# Altium footprint library SnapEDApcb.PcbLib: 1 footprints
Each footprint in its own frame and in the unit in brackets; x right, y up, seen from the top. Pads: shape width x height; smd on the part's side, far side on the other; paste and mask are expansions set on the pad; w line width, h text height; cw(c..) or ccw(c..) is an arc to the next point about the centre after c.
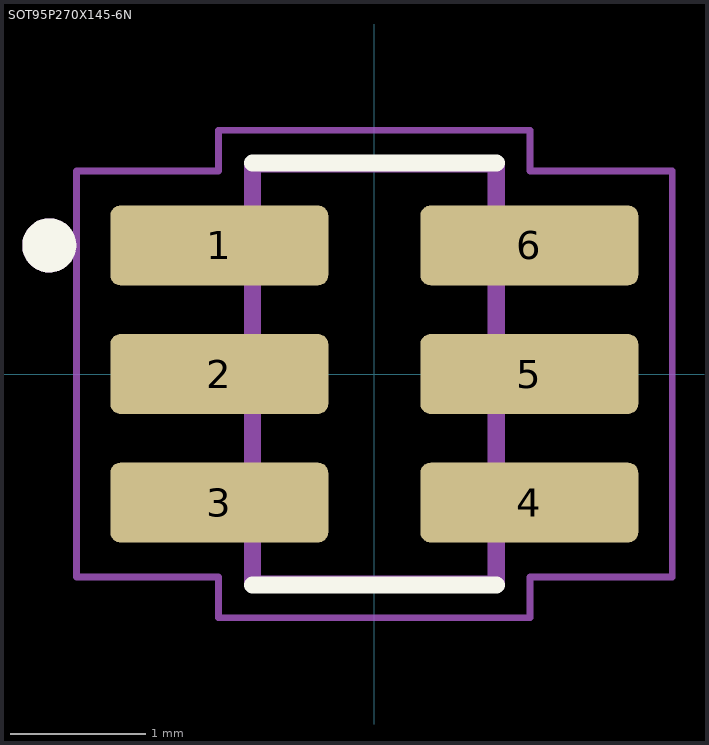
[diagram p0: the footprint, top view; thin cyan lines are the x and y axes]

## SOT95P270X145-6N [mm]
pads (6):
  rrect25% 1.61x0.59 smd: 1(-1.145,0.95) 2(-1.145,0) 3(-1.145,-0.95) 4(1.145,-0.95) 5(1.145,0) 6(1.145,0.95)
Top Overlay:
  circle w0.2: c-2.4,0.95 r0.1
  lines w0.127: -0.9,-1.559 0.9,-1.559 ; -0.9,1.559 0.9,1.559
Mechanical 13:
  circle w0.2: c-2.4,0.95 r0.1
  lines w0.127: -0.9,-1.55 -0.9,1.55 0.9,1.55 0.9,-1.55 -0.9,-1.55
Mechanical 15:
  lines w0.05: -2.2,-1.5 -2.2,1.5 -1.15,1.5 -1.15,1.8 1.15,1.8 1.15,1.5 2.2,1.5 2.2,-1.5 1.15,-1.5 1.15,-1.8 -1.15,-1.8 -1.15,-1.5 -2.2,-1.5